# Altium schematic symbol library C-C0805C106K8RACTU.Schlib: 1 symbol
Pins are listed as number, name and electrical type; pins without a type are passive.

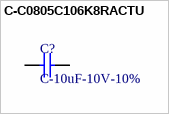
[diagram p0: symbol C-C0805C106K8RACTU]

## C-C0805C106K8RACTU
designator C?, comment C-10uF-10V-10%
Multilayer Ceramic Capacitors MLCC - SMD/SMT 10uF 10 Volts 10% X7R
pins: 1, 2